# Altium footprint library TO254P470X1016X2016-3P.PcbLib: 1 footprints
Each footprint in its own frame and in the unit in brackets; x right, y up, seen from the top. Pads: shape width x height; smd on the part's side, far side on the other; paste and mask are expansions set on the pad; w line width, h text height; cw(c..) or ccw(c..) is an arc to the next point about the centre after c.
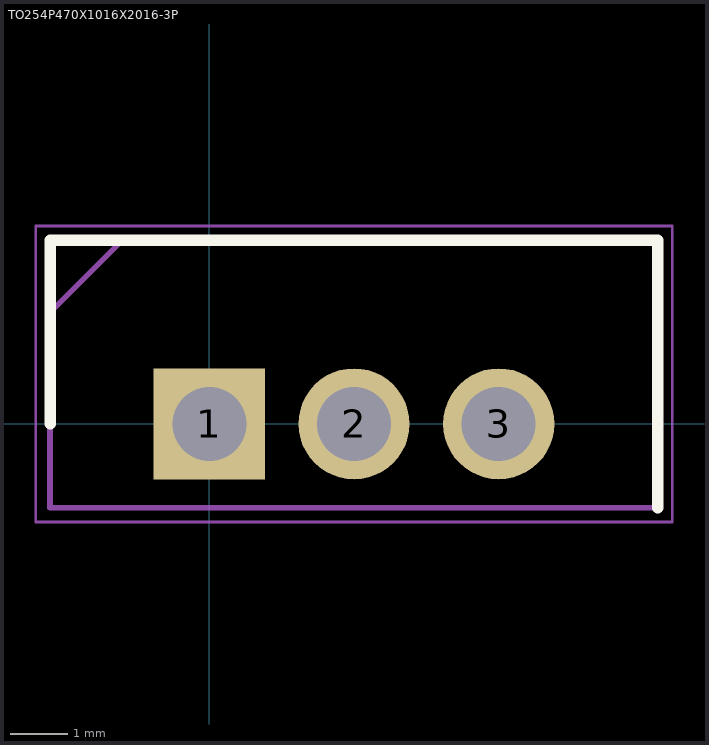
[diagram p0: the footprint, top view; thin cyan lines are the x and y axes]

## TO254P470X1016X2016-3P [mm]
pads (3):
  rect 1.95x1.95 / inner round 1.95 / far side rect 1.95x1.95 hole 1.3: 1(0,0)
  round 1.95 hole 1.3: 2(2.54,0) 3(5.08,0)
Top Overlay:
  lines w0.2: -2.795,0 -2.795,3.225 7.875,3.225 7.875,-1.475
Mechanical 15:
  lines w0.1: -2.795,1.955 -1.525,3.225 ; -2.795,-1.475 7.875,-1.475 7.875,3.225 -2.795,3.225 -2.795,-1.475
Mechanical 20:
  lines w0.05: -3.045,-1.725 8.125,-1.725 8.125,3.475 -3.045,3.475 -3.045,-1.725